# EAGLE library part LIB_ENS_AJ_V1_AFFICHEUR_LCD_I2C_MIDAS (library CarteUE441_v2)
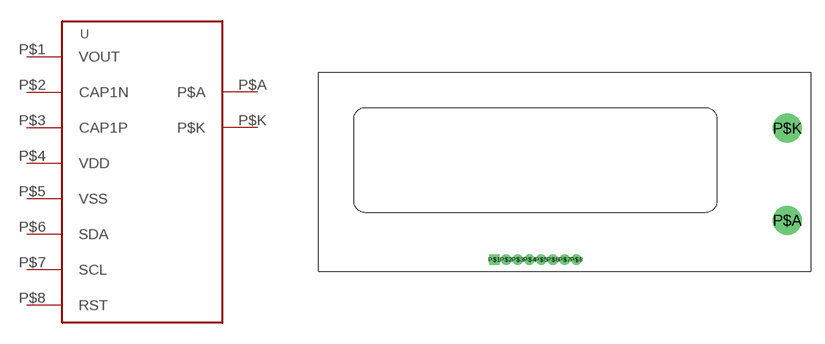
[diagram p2: symbol with the pads of LIB_ENS_AJ_V1_AFFICHEUR_LCD_I2C_MIDAS; footprint LIB_ENS_AJ_V1_AFFICHEUR_LCD_I2C_MIDAS]

Designator prefix -

## LIB_ENS_AJ_V1_AFFICHEUR_LCD_I2C_MIDAS  [LIB_ENS_AJ_V1_AFFICHEUR_LCD_I2C_MIDAS]
P$1  VOUT
P$2  CAP1N
P$3  CAP1P
P$4  VDD
P$5  VSS
P$6  SDA
P$7  SCL
P$8  RST
P$A  P$A
P$K  P$K

## Footprint LIB_ENS_AJ_V1_AFFICHEUR_LCD_I2C_MIDAS (pad centres in mm)
drill 0.6 square: P$1 0,0
drill 0.6: P$2 1.27,0; P$3 2.54,0; P$4 3.81,0; P$5 5.08,0; P$6 6.35,0; P$7 7.62,0; P$8 8.89,0
drill 2.1: P$A 31.75,4.25; P$K 31.75,14.25